# Altium schematic symbol library ESP.SchLib: 1 symbol
Pins are listed as number, name and electrical type; pins without a type are passive.

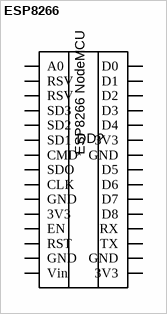
[diagram p0: symbol ESP8266]

## ESP8266
designator DD?
ESP8266
footprint SEEED_113990105
pins: J1_1 A0, J1_2 RSV, J1_3 RSV, J1_4 SD3, J1_5 SD2, J1_6 SD1, J1_7 CMD, J1_8 SDO, J1_9 CLK, J1_10 GND, J1_11 3V3, J1_12 EN, J1_13 RST, J1_15 GND, J1_16 Vin, J2_1 D0, J2_2 D1, J2_3 D2, J2_4 D3, J2_5 D4, J2_6 3V3, J2_7 GND, J2_8 D5, J2_9 D6, J2_10 D7, J2_11 D8, J2_12 RX, J2_13 TX, J2_14 GND, J2_15 3V3
text: ESP8266 NodeMCU